# Altium integrated library TI_Logic_Little_Logic.IntLib: 1164 symbols (part 7 of 35)
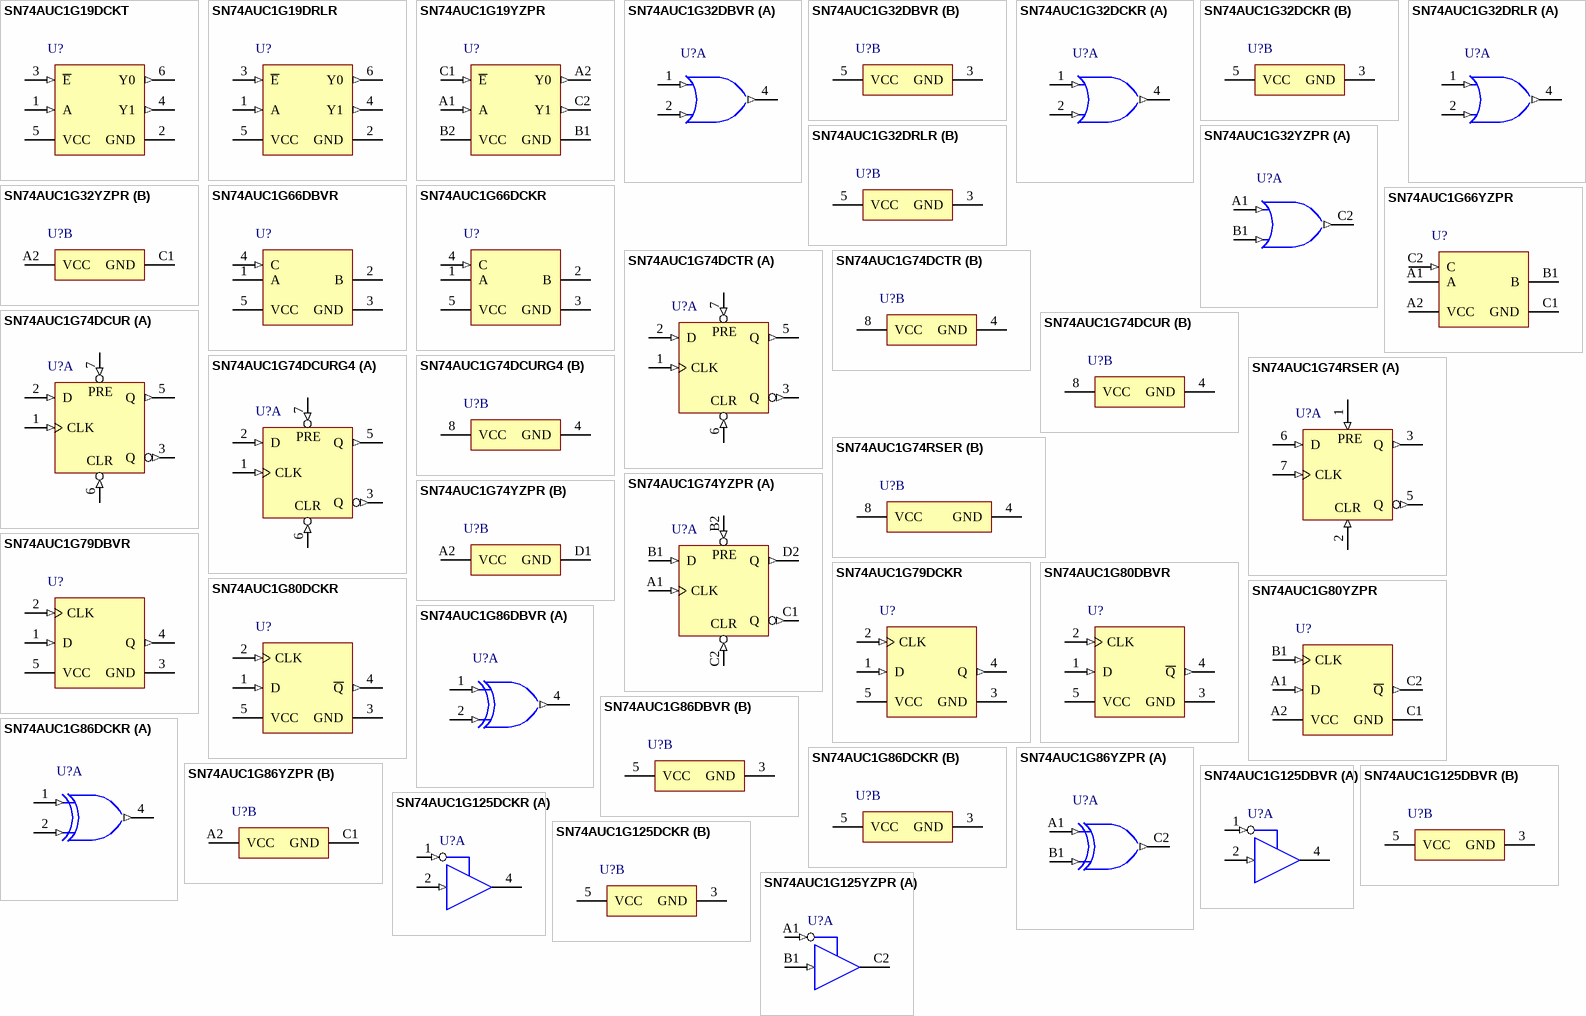
[diagram p66: symbols SN74AUC1G19DCKT to SN74AUC1G125YZPR]

## SN74AUC1G79DBVR
designator U?
Single Positive-Edge-Triggered D-Type Flip-Flop, DBV0005A, LARGE T&R; Generic Part Number: SN74AUC1G79; Manufacturer: Texas Instruments; PartNumber: SN74AUC1G79DBVR; VCC(Min)(V): 0.8; VCC(Max)(V): 2.7; Output Type: CMOS; ICC @ Nom Voltage(Max)(mA): 0.01; Bits(#): 1; F @ Nom Voltage(Max)(Mhz): 250; Rating: Catalog; Technology Family: AUC; Voltage(Nom)(V): 0.8,1.2,1.5,1.8,2.5; Schmitt Trigger: No; Output Drive (IOL/IOH)(Max)(mA): 9/-9; tpd @ Nom Voltage(Max)(ns): 5,2.9,2.5,1.9,1.3; Logic: True; DatasheetVersion: SCES387K; PackageReference: DBV0005A; Supplier 1: Mouser; Supplier Part Number 1: 595-SN74AUC1G79DBVR; Supplier 2: Digi-Key; Supplier Part Number 2: 296-15430-2-ND; Supplier 3: Digi-Key; Supplier Part Number 3: 296-15430-1-ND; Supplier 4: Digi-Key; Supplier Part Number 4: 296-15430-6-ND; Input Type: CMOS; Operating Temperature Range(C): -40 to 85; 3-State Output: No; Sub-Family: D-Type Flip-Flop; ComponentLink1Description: Manufacturer URL; ComponentLink1URL: http://www.ti.com/; ComponentLink2Description: Datasheet; ComponentLink2URL: http://www.ti.com/lit/ds/symlink/sn74auc1g79.pdf
footprint DBV0005A_N (SOT23, 5-Leads, Body 3.05x1.75mm, Pitch 0.95mm, IPC Medium Density)
footprint DBV0005A_M (SOT23, 5-Leads, Body 3.05x1.75mm, Pitch 0.95mm, IPC Low Density)
footprint DBV0005A_L (SOT23, 5-Leads, Body 3.05x1.75mm, Pitch 0.95mm, IPC High Density)
pins: 1 D (in) "Data Input", 2 CLK (in) "Clock Input", 3 GND (power) "Ground", 4 Q (out) "Q Output", 5 VCC (power) "Power"

## SN74AUC1G79DCKR
designator U?
Single Positive-Edge-Triggered D-Type Flip-Flop, DCK0005A, LARGE T&R; Generic Part Number: SN74AUC1G79; Manufacturer: Texas Instruments; PartNumber: SN74AUC1G79DCKR; VCC(Min)(V): 0.8; VCC(Max)(V): 2.7; Output Type: CMOS; ICC @ Nom Voltage(Max)(mA): 0.01; Bits(#): 1; F @ Nom Voltage(Max)(Mhz): 250; Rating: Catalog; Technology Family: AUC; Voltage(Nom)(V): 0.8,1.2,1.5,1.8,2.5; Schmitt Trigger: No; Output Drive (IOL/IOH)(Max)(mA): 9/-9; tpd @ Nom Voltage(Max)(ns): 5,2.9,2.5,1.9,1.3; Logic: True; DatasheetVersion: SCES387K; PackageReference: DCK0005A; Supplier 1: Mouser; Supplier Part Number 1: 595-SN74AUC1G79DCKR; Supplier 2: Digi-Key; Supplier Part Number 2: 296-14309-2-ND; Supplier 3: Digi-Key; Supplier Part Number 3: 296-14309-1-ND; Supplier 4: Digi-Key; Supplier Part Number 4: 296-14309-6-ND; Input Type: CMOS; Operating Temperature Range(C): -40 to 85; 3-State Output: No; Sub-Family: D-Type Flip-Flop; ComponentLink1Description: Manufacturer URL; ComponentLink1URL: http://www.ti.com/; ComponentLink2Description: Datasheet; ComponentLink2URL: http://www.ti.com/lit/ds/symlink/sn74auc1g79.pdf
footprint DCK0005A_N (SOT23, 5-Leads, Body 2.15x1.4mm, Pitch 0.65mm, IPC Medium Density)
footprint DCK0005A_M (SOT23, 5-Leads, Body 2.15x1.4mm, Pitch 0.65mm, IPC Low Density)
footprint DCK0005A_L (SOT23, 5-Leads, Body 2.15x1.4mm, Pitch 0.65mm, IPC High Density)
pins: 1 D (in) "Data Input", 2 CLK (in) "Clock Input", 3 GND (power) "Ground", 4 Q (out) "Q Output", 5 VCC (power) "Power"

## SN74AUC1G80DBVR
designator U?
Single Positive-Edge-Triggered D-Type Flip-Flop, DBV0005A, LARGE T&R; Generic Part Number: SN74AUC1G80; Manufacturer: Texas Instruments; PartNumber: SN74AUC1G80DBVR; VCC(Min)(V): 0.8; VCC(Max)(V): 2.7; Output Type: CMOS; ICC @ Nom Voltage(Max)(mA): 0.01; Bits(#): 1; F @ Nom Voltage(Max)(Mhz): 250; Rating: Catalog; Technology Family: AUC; Voltage(Nom)(V): 0.8,1.2,1.5,1.8,2.5; Schmitt Trigger: No; Output Drive (IOL/IOH)(Max)(mA): 9/-9; tpd @ Nom Voltage(Max)(ns): 5,3.9,2.5,1.9,1.3; Logic: True; DatasheetVersion: SCES388K; PackageReference: DBV0005A; Supplier 1: Mouser; Supplier Part Number 1: 595-SN74AUC1G80DBVR; Supplier 2: Digi-Key; Supplier Part Number 2: 296-15431-2-ND; Supplier 3: Digi-Key; Supplier Part Number 3: 296-15431-1-ND; Supplier 4: Digi-Key; Supplier Part Number 4: 296-15431-6-ND; Input Type: CMOS; Operating Temperature Range(C): -40 to 85; 3-State Output: No; Sub-Family: D-Type Flip-Flop; ComponentLink1Description: Manufacturer URL; ComponentLink1URL: http://www.ti.com/; ComponentLink2Description: Datasheet; ComponentLink2URL: http://www.ti.com/lit/ds/symlink/sn74auc1g80.pdf
footprint DBV0005A_N (SOT23, 5-Leads, Body 3.05x1.75mm, Pitch 0.95mm, IPC Medium Density)
footprint DBV0005A_M (SOT23, 5-Leads, Body 3.05x1.75mm, Pitch 0.95mm, IPC Low Density)
footprint DBV0005A_L (SOT23, 5-Leads, Body 3.05x1.75mm, Pitch 0.95mm, IPC High Density)
pins: 1 D (in), 2 CLK (in), 3 GND (power), 4 ~{Q} (out), 5 VCC (power)

## SN74AUC1G80DCKR
designator U?
Single Positive-Edge-Triggered D-Type Flip-Flop, DCK0005A, LARGE T&R; Generic Part Number: SN74AUC1G80; Manufacturer: Texas Instruments; PartNumber: SN74AUC1G80DCKR; VCC(Min)(V): 0.8; VCC(Max)(V): 2.7; Output Type: CMOS; ICC @ Nom Voltage(Max)(mA): 0.01; Bits(#): 1; F @ Nom Voltage(Max)(Mhz): 250; Rating: Catalog; Technology Family: AUC; Voltage(Nom)(V): 0.8,1.2,1.5,1.8,2.5; Schmitt Trigger: No; Output Drive (IOL/IOH)(Max)(mA): 9/-9; tpd @ Nom Voltage(Max)(ns): 5,3.9,2.5,1.9,1.3; Logic: True; DatasheetVersion: SCES388K; PackageReference: DCK0005A; Supplier 1: Mouser; Supplier Part Number 1: 595-SN74AUC1G80DCKR; Supplier 2: Digi-Key; Supplier Part Number 2: 296-14310-2-ND; Supplier 3: Digi-Key; Supplier Part Number 3: 296-14310-1-ND; Supplier 4: Digi-Key; Supplier Part Number 4: 296-14310-6-ND; Input Type: CMOS; Operating Temperature Range(C): -40 to 85; 3-State Output: No; Sub-Family: D-Type Flip-Flop; ComponentLink1Description: Manufacturer URL; ComponentLink1URL: http://www.ti.com/; ComponentLink2Description: Datasheet; ComponentLink2URL: http://www.ti.com/lit/ds/symlink/sn74auc1g80.pdf
footprint DCK0005A_N (SOT23, 5-Leads, Body 2.15x1.4mm, Pitch 0.65mm, IPC Medium Density)
footprint DCK0005A_M (SOT23, 5-Leads, Body 2.15x1.4mm, Pitch 0.65mm, IPC Low Density)
footprint DCK0005A_L (SOT23, 5-Leads, Body 2.15x1.4mm, Pitch 0.65mm, IPC High Density)
pins: 1 D (in), 2 CLK (in), 3 GND (power), 4 ~{Q} (out), 5 VCC (power)

## SN74AUC1G80YZPR
designator U?
Single Positive-Edge-Triggered D-Type Flip-Flop, YZP0005ADAD, LARGE T&R; Generic Part Number: SN74AUC1G80; Manufacturer: Texas Instruments; PartNumber: SN74AUC1G80YZPR; VCC(Min)(V): 0.8; VCC(Max)(V): 2.7; Output Type: CMOS; ICC @ Nom Voltage(Max)(mA): 0.01; Bits(#): 1; F @ Nom Voltage(Max)(Mhz): 250; Rating: Catalog; Technology Family: AUC; Voltage(Nom)(V): 0.8,1.2,1.5,1.8,2.5; Schmitt Trigger: No; Output Drive (IOL/IOH)(Max)(mA): 9/-9; tpd @ Nom Voltage(Max)(ns): 5,3.9,2.5,1.9,1.3; Logic: True; DatasheetVersion: SCES388K; PackageReference: YZP0005ADAD; Supplier 1: Mouser; Supplier Part Number 1: 595-SN74AUC1G80YZPR; Supplier 2: Digi-Key; Supplier Part Number 2: 296-15890-2-ND; Supplier 3: Digi-Key; Supplier Part Number 3: 296-15890-1-ND; Input Type: CMOS; Operating Temperature Range(C): -40 to 85; 3-State Output: No; Sub-Family: D-Type Flip-Flop; ComponentLink1Description: Manufacturer URL; ComponentLink1URL: http://www.ti.com/; ComponentLink2Description: Datasheet; ComponentLink2URL: http://www.ti.com/lit/ds/symlink/sn74auc1g80.pdf
footprint YZP0005ADAD (BGA, 5-Balls, Body 1.39x0.89mm, Pitch 0.5mm)
pins: A1 D (in), A2 VCC (power), B1 CLK (in), C1 GND (power), C2 ~{Q} (out)

## SN74AUC1G86DBVR
designator U?
Single 2-Input Exclusive-OR Gate, DBV0005A, LARGE T&R; Generic Part Number: SN74AUC1G86; Manufacturer: Texas Instruments; PartNumber: SN74AUC1G86DBVR; VCC(Min)(V): 0.8; VCC(Max)(V): 2.7; Output Type: CMOS; ICC @ Nom Voltage(Max)(mA): 0.01; Bits(#): 1; F @ Nom Voltage(Max)(Mhz): 250; Rating: Catalog; Technology Family: AUC; Voltage(Nom)(V): 0.8,1.2,1.5,1.8,2.5; Schmitt Trigger: No; Output Drive (IOL/IOH)(Max)(mA): 9/-9; tpd @ Nom Voltage(Max)(ns): 5.5,3.8,2.6,1.7,1.3; Logic: True; Gate Type: XOR; Sub-Family: XOR Gate; DatasheetVersion: SCES389J; PackageReference: DBV0005A; Supplier 1: Mouser; Supplier Part Number 1: 595-SN74AUC1G86DBVR; Supplier 2: Digi-Key; Supplier Part Number 2: 296-15432-2-ND; Supplier 3: Digi-Key; Supplier Part Number 3: 296-15432-1-ND; Supplier 4: Digi-Key; Supplier Part Number 4: 296-15432-6-ND; Input Type: CMOS; Operating Temperature Range(C): -40 to 85; 3-State Output: No; ComponentLink1Description: Manufacturer URL; ComponentLink1URL: http://www.ti.com/; ComponentLink2Description: Datasheet; ComponentLink2URL: http://www.ti.com/lit/ds/symlink/sn74auc1g86.pdf
footprint DBV0005A_N (SOT23, 5-Leads, Body 3.05x1.75mm, Pitch 0.95mm, IPC Medium Density)
footprint DBV0005A_M (SOT23, 5-Leads, Body 3.05x1.75mm, Pitch 0.95mm, IPC Low Density)
footprint DBV0005A_L (SOT23, 5-Leads, Body 3.05x1.75mm, Pitch 0.95mm, IPC High Density)
part A pins: 1 A (in) "Input A", 2 B (in) "Input B", 4 Y (out) "Output Y"
part B pins: 3 GND (power) "Ground Pin", 5 VCC (power) "Power Pin"

## SN74AUC1G86DCKR
designator U?
Single 2-Input Exclusive-OR Gate, DCK0005A, LARGE T&R; Generic Part Number: SN74AUC1G86; Manufacturer: Texas Instruments; PartNumber: SN74AUC1G86DCKR; VCC(Min)(V): 0.8; VCC(Max)(V): 2.7; Output Type: CMOS; ICC @ Nom Voltage(Max)(mA): 0.01; Bits(#): 1; F @ Nom Voltage(Max)(Mhz): 250; Rating: Catalog; Technology Family: AUC; Voltage(Nom)(V): 0.8,1.2,1.5,1.8,2.5; Schmitt Trigger: No; Output Drive (IOL/IOH)(Max)(mA): 9/-9; tpd @ Nom Voltage(Max)(ns): 5.5,3.8,2.6,1.7,1.3; Logic: True; Gate Type: XOR; Sub-Family: XOR Gate; DatasheetVersion: SCES389J; PackageReference: DCK0005A; Supplier 1: Mouser; Supplier Part Number 1: 595-SN74AUC1G86DCKR; Supplier 2: Digi-Key; Supplier Part Number 2: 296-15433-2-ND; Supplier 3: Digi-Key; Supplier Part Number 3: 296-15433-1-ND; Supplier 4: Digi-Key; Supplier Part Number 4: 296-15433-6-ND; Input Type: CMOS; Operating Temperature Range(C): -40 to 85; 3-State Output: No; ComponentLink1Description: Manufacturer URL; ComponentLink1URL: http://www.ti.com/; ComponentLink2Description: Datasheet; ComponentLink2URL: http://www.ti.com/lit/ds/symlink/sn74auc1g86.pdf
footprint DCK0005A_N (SOT23, 5-Leads, Body 2.15x1.4mm, Pitch 0.65mm, IPC Medium Density)
footprint DCK0005A_M (SOT23, 5-Leads, Body 2.15x1.4mm, Pitch 0.65mm, IPC Low Density)
footprint DCK0005A_L (SOT23, 5-Leads, Body 2.15x1.4mm, Pitch 0.65mm, IPC High Density)
part A pins: 1 A (in) "Input A", 2 B (in) "Input B", 4 Y (out) "Output Y"
part B pins: 3 GND (power) "Ground Pin", 5 VCC (power) "Power Pin"

## SN74AUC1G86YZPR
designator U?
Single 2-Input Exclusive-OR Gate, YZP0005ADAD, LARGE T&R; Generic Part Number: SN74AUC1G86; Manufacturer: Texas Instruments; PartNumber: SN74AUC1G86YZPR; VCC(Min)(V): 0.8; VCC(Max)(V): 2.7; Output Type: CMOS; ICC @ Nom Voltage(Max)(mA): 0.01; Bits(#): 1; F @ Nom Voltage(Max)(Mhz): 250; Rating: Catalog; Technology Family: AUC; Voltage(Nom)(V): 0.8,1.2,1.5,1.8,2.5; Schmitt Trigger: No; Output Drive (IOL/IOH)(Max)(mA): 9/-9; tpd @ Nom Voltage(Max)(ns): 5.5,3.8,2.6,1.7,1.3; Logic: True; Gate Type: XOR; Sub-Family: XOR Gate; DatasheetVersion: SCES389J; PackageReference: YZP0005ADAD; Supplier 1: Mouser; Supplier Part Number 1: 595-SN74AUC1G86YZPR; Supplier 2: Digi-Key; Supplier Part Number 2: 296-18564-2-ND; Supplier 3: Digi-Key; Supplier Part Number 3: 296-18564-1-ND; Input Type: CMOS; Operating Temperature Range(C): -40 to 85; 3-State Output: No; ComponentLink1Description: Manufacturer URL; ComponentLink1URL: http://www.ti.com/; ComponentLink2Description: Datasheet; ComponentLink2URL: http://www.ti.com/lit/ds/symlink/sn74auc1g86.pdf
footprint YZP0005ADAD (BGA, 5-Balls, Body 1.39x0.89mm, Pitch 0.5mm)
part A pins: A1 A (in), B1 B (in), C2 Y (out)
part B pins: A2 VCC (power), C1 GND (power)

## SN74AUC1G125DBVR
designator U?
Single Bus Buffer Gate With 3-State Output, DBV0005A, LARGE T&R; Generic Part Number: SN74AUC1G125; Manufacturer: Texas Instruments; PartNumber: SN74AUC1G125DBVR; VCC(Min)(V): 0.8; VCC(Max)(V): 2.7; Output Type: CMOS; ICC @ Nom Voltage(Max)(mA): 0.01; Bits(#): 1; F @ Nom Voltage(Max)(Mhz): 250; Rating: Catalog; Technology Family: AUC; Voltage(Nom)(V): 0.8,1.2,1.5,1.8,2.5; Schmitt Trigger: No; Output Drive (IOL/IOH)(Max)(mA): 9/-9; tpd @ Nom Voltage(Max)(ns): 4.7,3.6,2.3,1.5,1.3; Logic: True; Sub-Family: Non-Inverting Buffer/Driver; 3-State Output: Yes; DatasheetVersion: SCES382K; PackageReference: DBV0005A; Supplier 1: Mouser; Supplier Part Number 1: 595-SN74AUC1G125DBVR; Supplier 2: Digi-Key; Supplier Part Number 2: 296-12657-2-ND; Supplier 3: Digi-Key; Supplier Part Number 3: 296-12657-1-ND; Supplier 4: Digi-Key; Supplier Part Number 4: 296-12657-6-ND; Input Type: CMOS; Operating Temperature Range(C): -40 to 85; ComponentLink1Description: Manufacturer URL; ComponentLink1URL: http://www.ti.com/; ComponentLink2Description: Datasheet; ComponentLink2URL: http://www.ti.com/lit/ds/symlink/sn74auc1g125.pdf
footprint DBV0005A_N (SOT23, 5-Leads, Body 3.05x1.75mm, Pitch 0.95mm, IPC Medium Density)
footprint DBV0005A_M (SOT23, 5-Leads, Body 3.05x1.75mm, Pitch 0.95mm, IPC Low Density)
footprint DBV0005A_L (SOT23, 5-Leads, Body 3.05x1.75mm, Pitch 0.95mm, IPC High Density)
part A pins: 1 ~{OE} (in), 2 A (in), 4 Y (hiz)
part B pins: 3 GND (power), 5 VCC (power)

## SN74AUC1G125DCKR
designator U?
Single Bus Buffer Gate With 3-State Output, DCK0005A, LARGE T&R; Generic Part Number: SN74AUC1G125; Manufacturer: Texas Instruments; PartNumber: SN74AUC1G125DCKR; VCC(Min)(V): 0.8; VCC(Max)(V): 2.7; Output Type: CMOS; ICC @ Nom Voltage(Max)(mA): 0.01; Bits(#): 1; F @ Nom Voltage(Max)(Mhz): 250; Rating: Catalog; Technology Family: AUC; Voltage(Nom)(V): 0.8,1.2,1.5,1.8,2.5; Schmitt Trigger: No; Output Drive (IOL/IOH)(Max)(mA): 9/-9; tpd @ Nom Voltage(Max)(ns): 4.7,3.6,2.3,1.5,1.3; Logic: True; Sub-Family: Non-Inverting Buffer/Driver; 3-State Output: Yes; DatasheetVersion: SCES382K; PackageReference: DCK0005A; Supplier 1: Mouser; Supplier Part Number 1: 595-SN74AUC1G125DCKR; Supplier 2: Digi-Key; Supplier Part Number 2: 296-12658-2-ND; Supplier 3: Digi-Key; Supplier Part Number 3: 296-12658-1-ND; Supplier 4: Digi-Key; Supplier Part Number 4: 296-12658-6-ND; Input Type: CMOS; Operating Temperature Range(C): -40 to 85; ComponentLink1Description: Manufacturer URL; ComponentLink1URL: http://www.ti.com/; ComponentLink2Description: Datasheet; ComponentLink2URL: http://www.ti.com/lit/ds/symlink/sn74auc1g125.pdf
footprint DCK0005A_N (SOT23, 5-Leads, Body 2.15x1.4mm, Pitch 0.65mm, IPC Medium Density)
footprint DCK0005A_M (SOT23, 5-Leads, Body 2.15x1.4mm, Pitch 0.65mm, IPC Low Density)
footprint DCK0005A_L (SOT23, 5-Leads, Body 2.15x1.4mm, Pitch 0.65mm, IPC High Density)
part A pins: 1 ~{OE} (in), 2 A (in), 4 Y (hiz)
part B pins: 3 GND (power), 5 VCC (power)

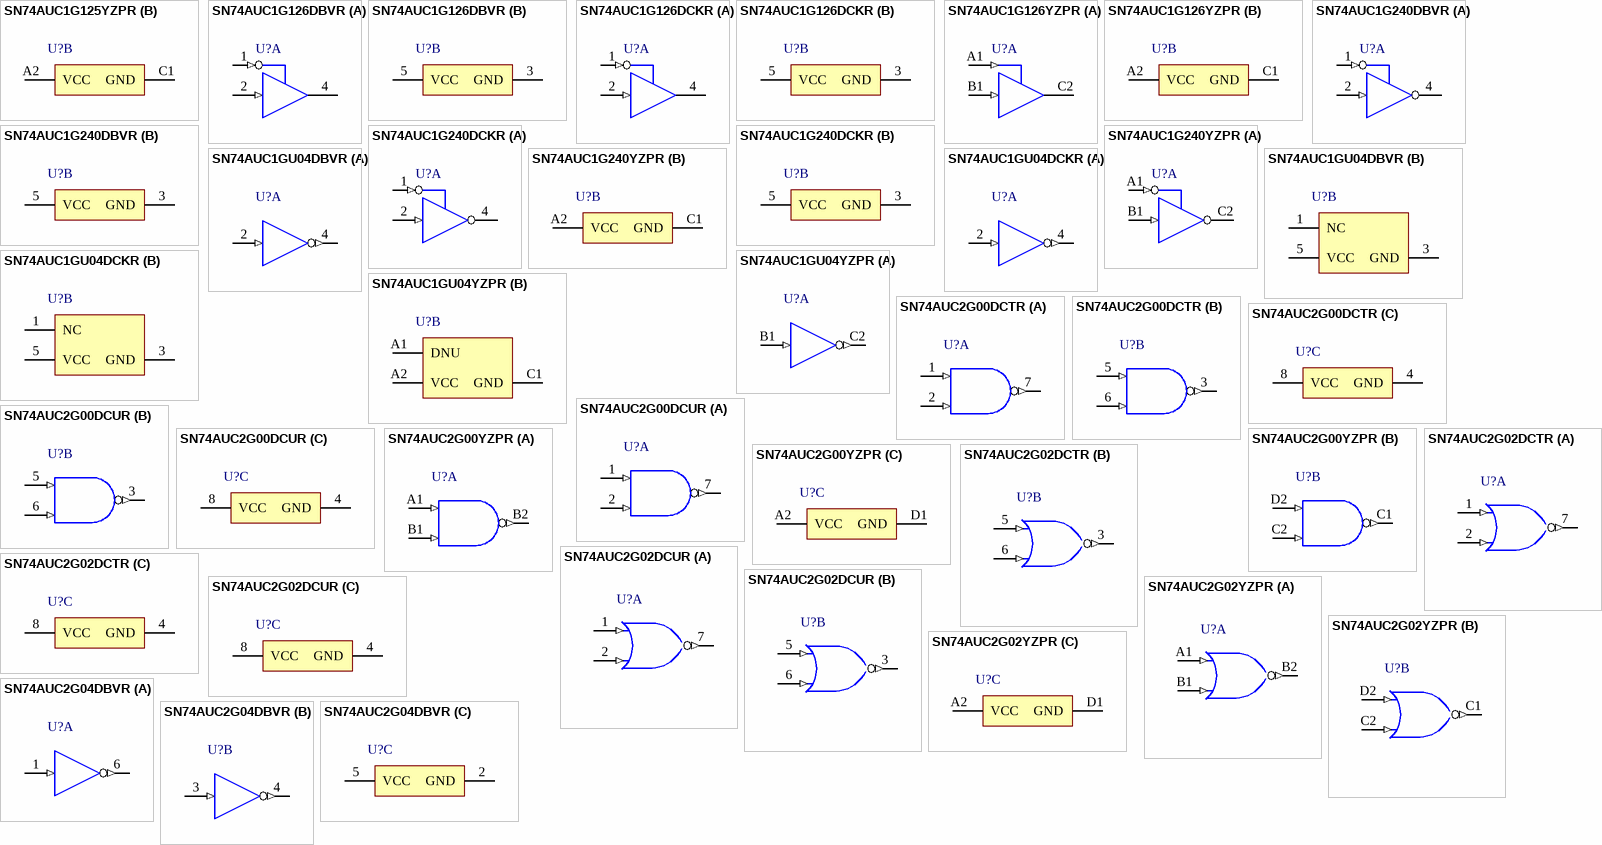
[diagram p10: symbols SN74AUC1G125YZPR to SN74AUC2G04DBVR]

## SN74AUC1G125YZPR
designator U?
Single Bus Buffer Gate With 3-State Output, YZP0005ADAD, LARGE T&R; Generic Part Number: SN74AUC1G125; Manufacturer: Texas Instruments; PartNumber: SN74AUC1G125YZPR; VCC(Min)(V): 0.8; VCC(Max)(V): 2.7; Output Type: CMOS; ICC @ Nom Voltage(Max)(mA): 0.01; Bits(#): 1; F @ Nom Voltage(Max)(Mhz): 250; Rating: Catalog; Technology Family: AUC; Voltage(Nom)(V): 0.8,1.2,1.5,1.8,2.5; Schmitt Trigger: No; Output Drive (IOL/IOH)(Max)(mA): 9/-9; tpd @ Nom Voltage(Max)(ns): 4.7,3.6,2.3,1.5,1.3; Logic: True; Sub-Family: Non-Inverting Buffer/Driver; 3-State Output: Yes; DatasheetVersion: SCES382K; PackageReference: YZP0005ADAD; Supplier 1: Mouser; Supplier Part Number 1: 595-SN74AUC1G125YZPR; Supplier 2: Digi-Key; Supplier Part Number 2: 296-18551-2-ND; Supplier 3: Digi-Key; Supplier Part Number 3: 296-18551-1-ND; Supplier 4: Digi-Key; Supplier Part Number 4: 296-18551-6-ND; Input Type: CMOS; Operating Temperature Range(C): -40 to 85; ComponentLink1Description: Manufacturer URL; ComponentLink1URL: http://www.ti.com/; ComponentLink2Description: Datasheet; ComponentLink2URL: http://www.ti.com/lit/ds/symlink/sn74auc1g125.pdf
footprint YZP0005ADAD (BGA, 5-Balls, Body 1.39x0.89mm, Pitch 0.5mm)
part A pins: A1 ~{OE} (in), B1 A (in), C2 Y (hiz)
part B pins: A2 VCC (power), C1 GND (power)

## SN74AUC1G126DBVR
designator U?
Single Bus Buffer Gate With 3-State Output, DBV0005A, LARGE T&R; Generic Part Number: SN74AUC1G126; Manufacturer: Texas Instruments; PartNumber: SN74AUC1G126DBVR; VCC(Min)(V): 0.8; VCC(Max)(V): 2.7; Output Type: CMOS; ICC @ Nom Voltage(Max)(mA): 0.01; Bits(#): 1; F @ Nom Voltage(Max)(Mhz): 250; Rating: Catalog; Technology Family: AUC; Voltage(Nom)(V): 0.8,1.2,1.5,1.8,2.5; Schmitt Trigger: No; Output Drive (IOL/IOH)(Max)(mA): 9/-9; tpd @ Nom Voltage(Max)(ns): 4.5,3.6,2.3,1.6,1.4; Logic: True; Sub-Family: Non-Inverting Buffer/Driver; 3-State Output: Yes; DatasheetVersion: SCES383J; PackageReference: DBV0005A; Supplier 1: Mouser; Supplier Part Number 1: 595-SN74AUC1G126DBVR; Supplier 2: Digi-Key; Supplier Part Number 2: 296-12659-2-ND; Supplier 3: Digi-Key; Supplier Part Number 3: 296-12659-1-ND; Supplier 4: Digi-Key; Supplier Part Number 4: 296-12659-6-ND; Input Type: CMOS; Operating Temperature Range(C): -40 to 85; ComponentLink1Description: Manufacturer URL; ComponentLink1URL: http://www.ti.com/; ComponentLink2Description: Datasheet; ComponentLink2URL: http://www.ti.com/lit/ds/symlink/sn74auc1g126.pdf
footprint DBV0005A_N (SOT23, 5-Leads, Body 3.05x1.75mm, Pitch 0.95mm, IPC Medium Density)
footprint DBV0005A_M (SOT23, 5-Leads, Body 3.05x1.75mm, Pitch 0.95mm, IPC Low Density)
footprint DBV0005A_L (SOT23, 5-Leads, Body 3.05x1.75mm, Pitch 0.95mm, IPC High Density)
part A pins: 1 OE (in), 2 A (in), 4 Y (hiz)
part B pins: 3 GND (power), 5 VCC (power)

## SN74AUC1G126DCKR
designator U?
Single Bus Buffer Gate With 3-State Output, DCK0005A, LARGE T&R; Generic Part Number: SN74AUC1G126; Manufacturer: Texas Instruments; PartNumber: SN74AUC1G126DCKR; VCC(Min)(V): 0.8; VCC(Max)(V): 2.7; Output Type: CMOS; ICC @ Nom Voltage(Max)(mA): 0.01; Bits(#): 1; F @ Nom Voltage(Max)(Mhz): 250; Rating: Catalog; Technology Family: AUC; Voltage(Nom)(V): 0.8,1.2,1.5,1.8,2.5; Schmitt Trigger: No; Output Drive (IOL/IOH)(Max)(mA): 9/-9; tpd @ Nom Voltage(Max)(ns): 4.5,3.6,2.3,1.6,1.4; Logic: True; Sub-Family: Non-Inverting Buffer/Driver; 3-State Output: Yes; DatasheetVersion: SCES383J; PackageReference: DCK0005A; Supplier 1: Mouser; Supplier Part Number 1: 595-SN74AUC1G126DCKR; Supplier 2: Digi-Key; Supplier Part Number 2: 296-12660-2-ND; Supplier 3: Digi-Key; Supplier Part Number 3: 296-12660-1-ND; Supplier 4: Digi-Key; Supplier Part Number 4: 296-12660-6-ND; Input Type: CMOS; Operating Temperature Range(C): -40 to 85; ComponentLink1Description: Manufacturer URL; ComponentLink1URL: http://www.ti.com/; ComponentLink2Description: Datasheet; ComponentLink2URL: http://www.ti.com/lit/ds/symlink/sn74auc1g126.pdf
footprint DCK0005A_N (SOT23, 5-Leads, Body 2.15x1.4mm, Pitch 0.65mm, IPC Medium Density)
footprint DCK0005A_M (SOT23, 5-Leads, Body 2.15x1.4mm, Pitch 0.65mm, IPC Low Density)
footprint DCK0005A_L (SOT23, 5-Leads, Body 2.15x1.4mm, Pitch 0.65mm, IPC High Density)
part A pins: 1 OE (in), 2 A (in), 4 Y (hiz)
part B pins: 3 GND (power), 5 VCC (power)

## SN74AUC1G126YZPR
designator U?
Single Bus Buffer Gate With 3-State Output, YZP0005ADAD, LARGE T&R; Generic Part Number: SN74AUC1G126; Manufacturer: Texas Instruments; PartNumber: SN74AUC1G126YZPR; VCC(Min)(V): 0.8; VCC(Max)(V): 2.7; Output Type: CMOS; ICC @ Nom Voltage(Max)(mA): 0.01; Bits(#): 1; F @ Nom Voltage(Max)(Mhz): 250; Rating: Catalog; Technology Family: AUC; Voltage(Nom)(V): 0.8,1.2,1.5,1.8,2.5; Schmitt Trigger: No; Output Drive (IOL/IOH)(Max)(mA): 9/-9; tpd @ Nom Voltage(Max)(ns): 4.5,3.6,2.3,1.6,1.4; Logic: True; Sub-Family: Non-Inverting Buffer/Driver; 3-State Output: Yes; DatasheetVersion: SCES383J; PackageReference: YZP0005ADAD; Supplier 1: Mouser; Supplier Part Number 1: 595-SN74AUC1G126YZPR; Supplier 2: Digi-Key; Supplier Part Number 2: 296-19781-2-ND; Supplier 3: Digi-Key; Supplier Part Number 3: 296-19781-1-ND; Supplier 4: Digi-Key; Supplier Part Number 4: 296-19781-6-ND; Input Type: CMOS; Operating Temperature Range(C): -40 to 85; ComponentLink1Description: Manufacturer URL; ComponentLink1URL: http://www.ti.com/; ComponentLink2Description: Datasheet; ComponentLink2URL: http://www.ti.com/lit/ds/symlink/sn74auc1g126.pdf
footprint YZP0005ADAD (BGA, 5-Balls, Body 1.39x0.89mm, Pitch 0.5mm)
part A pins: A1 OE (in) "OE Enable/Input", B1 A (in) "A Input", C2 Y (hiz) "Y Output"
part B pins: A2 VCC (power) "Power Pin", C1 GND (power) "Ground Pin"

## SN74AUC1G240DBVR
designator U?
Single Buffer/Driver With 3-State Output, DBV0005A, LARGE T&R; Generic Part Number: SN74AUC1G240; Manufacturer: Texas Instruments; PartNumber: SN74AUC1G240DBVR; VCC(Min)(V): 0.8; VCC(Max)(V): 2.7; Output Type: CMOS; ICC @ Nom Voltage(Max)(mA): 0.01; Bits(#): 1; F @ Nom Voltage(Max)(Mhz): 250; Rating: Catalog; Technology Family: AUC; Voltage(Nom)(V): 0.8,1.2,1.5,1.8,2.5; Schmitt Trigger: No; Output Drive (IOL/IOH)(Max)(mA): 9/-9; tpd @ Nom Voltage(Max)(ns): 4.5,3.3,2.2,1.7,1.4; Logic: Inverting; Sub-Family: Non-Inverting Buffer/Driver; 3-State Output: Yes; DatasheetVersion: SCES384I; PackageReference: DBV0005A; Supplier 1: Mouser; Supplier Part Number 1: 595-SN74AUC1G240DBVR; Supplier 2: Digi-Key; Supplier Part Number 2: 296-12661-2-ND; Supplier 3: Digi-Key; Supplier Part Number 3: 296-12661-1-ND; Supplier 4: Digi-Key; Supplier Part Number 4: 296-12661-6-ND; Input Type: CMOS; Operating Temperature Range(C): -40 to 85; ComponentLink1Description: Manufacturer URL; ComponentLink1URL: http://www.ti.com/; ComponentLink2Description: Datasheet; ComponentLink2URL: http://www.ti.com/lit/ds/symlink/sn74auc1g240.pdf
footprint DBV0005A_N (SOT23, 5-Leads, Body 3.05x1.75mm, Pitch 0.95mm, IPC Medium Density)
footprint DBV0005A_M (SOT23, 5-Leads, Body 3.05x1.75mm, Pitch 0.95mm, IPC Low Density)
footprint DBV0005A_L (SOT23, 5-Leads, Body 3.05x1.75mm, Pitch 0.95mm, IPC High Density)
part A pins: 1 ~{OE} (in), 2 A (in), 4 Y (hiz)
part B pins: 3 GND (power), 5 VCC (power)

## SN74AUC1G240DCKR
designator U?
Single Buffer/Driver With 3-State Output, DCK0005A, LARGE T&R; Generic Part Number: SN74AUC1G240; Manufacturer: Texas Instruments; PartNumber: SN74AUC1G240DCKR; VCC(Min)(V): 0.8; VCC(Max)(V): 2.7; Output Type: CMOS; ICC @ Nom Voltage(Max)(mA): 0.01; Bits(#): 1; F @ Nom Voltage(Max)(Mhz): 250; Rating: Catalog; Technology Family: AUC; Voltage(Nom)(V): 0.8,1.2,1.5,1.8,2.5; Schmitt Trigger: No; Output Drive (IOL/IOH)(Max)(mA): 9/-9; tpd @ Nom Voltage(Max)(ns): 4.5,3.3,2.2,1.7,1.4; Logic: Inverting; Sub-Family: Non-Inverting Buffer/Driver; 3-State Output: Yes; DatasheetVersion: SCES384I; PackageReference: DCK0005A; Supplier 1: Mouser; Supplier Part Number 1: 595-SN74AUC1G240DCKR; Supplier 2: Digi-Key; Supplier Part Number 2: 296-12662-2-ND; Supplier 3: Digi-Key; Supplier Part Number 3: 296-12662-1-ND; Supplier 4: Digi-Key; Supplier Part Number 4: 296-12662-6-ND; Input Type: CMOS; Operating Temperature Range(C): -40 to 85; ComponentLink1Description: Manufacturer URL; ComponentLink1URL: http://www.ti.com/; ComponentLink2Description: Datasheet; ComponentLink2URL: http://www.ti.com/lit/ds/symlink/sn74auc1g240.pdf
footprint DCK0005A_N (SOT23, 5-Leads, Body 2.15x1.4mm, Pitch 0.65mm, IPC Medium Density)
footprint DCK0005A_M (SOT23, 5-Leads, Body 2.15x1.4mm, Pitch 0.65mm, IPC Low Density)
footprint DCK0005A_L (SOT23, 5-Leads, Body 2.15x1.4mm, Pitch 0.65mm, IPC High Density)
part A pins: 1 ~{OE} (in), 2 A (in), 4 Y (hiz)
part B pins: 3 GND (power), 5 VCC (power)

## SN74AUC1G240YZPR
designator U?
Single Buffer/Driver With 3-State Output, YZP0005ADAD, LARGE T&R; Generic Part Number: SN74AUC1G240; Manufacturer: Texas Instruments; PartNumber: SN74AUC1G240YZPR; VCC(Min)(V): 0.8; VCC(Max)(V): 2.7; Output Type: CMOS; ICC @ Nom Voltage(Max)(mA): 0.01; Bits(#): 1; F @ Nom Voltage(Max)(Mhz): 250; Rating: Catalog; Technology Family: AUC; Voltage(Nom)(V): 0.8,1.2,1.5,1.8,2.5; Schmitt Trigger: No; Output Drive (IOL/IOH)(Max)(mA): 9/-9; tpd @ Nom Voltage(Max)(ns): 4.5,3.3,2.2,1.7,1.4; Logic: Inverting; Sub-Family: Non-Inverting Buffer/Driver; 3-State Output: Yes; DatasheetVersion: SCES384I; PackageReference: YZP0005ADAD; Supplier 1: Mouser; Supplier Part Number 1: 595-SN74AUC1G240YZPR; Supplier 2: Digi-Key; Supplier Part Number 2: 296-15101-2-ND; Supplier 3: Digi-Key; Supplier Part Number 3: 296-15101-1-ND; Input Type: CMOS; Operating Temperature Range(C): -40 to 85; ComponentLink1Description: Manufacturer URL; ComponentLink1URL: http://www.ti.com/; ComponentLink2Description: Datasheet; ComponentLink2URL: http://www.ti.com/lit/ds/symlink/sn74auc1g240.pdf
footprint YZP0005ADAD (BGA, 5-Balls, Body 1.39x0.89mm, Pitch 0.5mm)
part A pins: A1 ~{OE} (in), B1 A (in), C2 Y (hiz)
part B pins: A2 VCC (power), C1 GND (power)

## SN74AUC1GU04DBVR
designator U?
Single Inverter Gate, DBV0005A, LARGE T&R; Generic Part Number: SN74AUC1GU04; Manufacturer: Texas Instruments; PartNumber: SN74AUC1GU04DBVR; VCC(Min)(V): 0.8; VCC(Max)(V): 2.7; Output Type: CMOS; ICC @ Nom Voltage(Max)(mA): 0.01; Bits(#): 1; F @ Nom Voltage(Max)(Mhz): 250; Rating: Catalog; Technology Family: AUC; Voltage(Nom)(V): 0.8,1.2,1.5,1.8,2.5; Schmitt Trigger: No; Output Drive (IOL/IOH)(Max)(mA): 9/-9; tpd @ Nom Voltage(Max)(ns): 1.9,2.5,1.7,2.3,2; Logic: Inverting; Sub-Family: Inverting Buffer/Driver; DatasheetVersion: SCES371L; PackageReference: DBV0005A; Supplier 1: Mouser; Supplier Part Number 1: 595-SN74AUC1GU04DBVR; Supplier 2: Digi-Key; Supplier Part Number 2: 296-13174-2-ND; Supplier 3: Digi-Key; Supplier Part Number 3: 296-13174-1-ND; Supplier 4: Digi-Key; Supplier Part Number 4: 296-13174-6-ND; Input Type: CMOS; Operating Temperature Range(C): -40 to 85; 3-State Output: No; ComponentLink1Description: Manufacturer URL; ComponentLink1URL: http://www.ti.com/; ComponentLink2Description: Datasheet; ComponentLink2URL: http://www.ti.com/lit/ds/symlink/sn74auc1gu04.pdf
footprint DBV0005A_N (SOT23, 5-Leads, Body 3.05x1.75mm, Pitch 0.95mm, IPC Medium Density)
footprint DBV0005A_M (SOT23, 5-Leads, Body 3.05x1.75mm, Pitch 0.95mm, IPC Low Density)
footprint DBV0005A_L (SOT23, 5-Leads, Body 3.05x1.75mm, Pitch 0.95mm, IPC High Density)
part A pins: 2 A (in) "Input A", 4 Y (out) "Output Y"
part B pins: 1 NC "Ground", 3 GND (power) "Ground Pin", 5 VCC (power) "Power Pin"

## SN74AUC1GU04DCKR
designator U?
Single Inverter Gate, DCK0005A, LARGE T&R; Generic Part Number: SN74AUC1GU04; Manufacturer: Texas Instruments; PartNumber: SN74AUC1GU04DCKR; VCC(Min)(V): 0.8; VCC(Max)(V): 2.7; Output Type: CMOS; ICC @ Nom Voltage(Max)(mA): 0.01; Bits(#): 1; F @ Nom Voltage(Max)(Mhz): 250; Rating: Catalog; Technology Family: AUC; Voltage(Nom)(V): 0.8,1.2,1.5,1.8,2.5; Schmitt Trigger: No; Output Drive (IOL/IOH)(Max)(mA): 9/-9; tpd @ Nom Voltage(Max)(ns): 1.9,2.5,1.7,2.3,2; Logic: Inverting; Sub-Family: Inverting Buffer/Driver; DatasheetVersion: SCES371L; PackageReference: DCK0005A; Supplier 1: Mouser; Supplier Part Number 1: 595-SN74AUC1GU04DCKR; Supplier 2: Digi-Key; Supplier Part Number 2: 296-13175-2-ND; Supplier 3: Digi-Key; Supplier Part Number 3: 296-13175-1-ND; Supplier 4: Digi-Key; Supplier Part Number 4: 296-13175-6-ND; Input Type: CMOS; Operating Temperature Range(C): -40 to 85; 3-State Output: No; ComponentLink1Description: Manufacturer URL; ComponentLink1URL: http://www.ti.com/; ComponentLink2Description: Datasheet; ComponentLink2URL: http://www.ti.com/lit/ds/symlink/sn74auc1gu04.pdf
footprint DCK0005A_N (SOT23, 5-Leads, Body 2.15x1.4mm, Pitch 0.65mm, IPC Medium Density)
footprint DCK0005A_M (SOT23, 5-Leads, Body 2.15x1.4mm, Pitch 0.65mm, IPC Low Density)
footprint DCK0005A_L (SOT23, 5-Leads, Body 2.15x1.4mm, Pitch 0.65mm, IPC High Density)
part A pins: 2 A (in) "Input A", 4 Y (out) "Output Y"
part B pins: 1 NC "Ground", 3 GND (power) "Ground Pin", 5 VCC (power) "Power Pin"

## SN74AUC1GU04YZPR
designator U?
Single Inverter Gate, YZP0005ADAD, LARGE T&R; Generic Part Number: SN74AUC1GU04; Manufacturer: Texas Instruments; PartNumber: SN74AUC1GU04YZPR; VCC(Min)(V): 0.8; VCC(Max)(V): 2.7; Output Type: CMOS; ICC @ Nom Voltage(Max)(mA): 0.01; Bits(#): 1; F @ Nom Voltage(Max)(Mhz): 250; Rating: Catalog; Technology Family: AUC; Voltage(Nom)(V): 0.8,1.2,1.5,1.8,2.5; Schmitt Trigger: No; Output Drive (IOL/IOH)(Max)(mA): 9/-9; tpd @ Nom Voltage(Max)(ns): 1.9,2.5,1.7,2.3,2; Logic: Inverting; Sub-Family: Inverting Buffer/Driver; DatasheetVersion: SCES371L; PackageReference: YZP0005ADAD; Supplier 1: Mouser; Supplier Part Number 1: 595-SN74AUC1GU04YZPR; Supplier 2: Digi-Key; Supplier Part Number 2: 296-24107-2-ND; Supplier 3: Digi-Key; Supplier Part Number 3: 296-24107-1-ND; Supplier 4: Digi-Key; Supplier Part Number 4: 296-24107-6-ND; Input Type: CMOS; Operating Temperature Range(C): -40 to 85; 3-State Output: No; ComponentLink1Description: Manufacturer URL; ComponentLink1URL: http://www.ti.com/; ComponentLink2Description: Datasheet; ComponentLink2URL: http://www.ti.com/lit/ds/symlink/sn74auc1gu04.pdf
footprint YZP0005ADAD (BGA, 5-Balls, Body 1.39x0.89mm, Pitch 0.5mm)
part A pins: B1 A (in) "Input", C2 Y (out) "Output"
part B pins: A1 DNU "Do not use", A2 VCC (power) "Power terminal", C1 GND (power) "Ground"

## SN74AUC2G00DCTR
designator U?
DUAL 2-INPUT POSITIVE-NAND GATE, DCT0008A, LARGE T&R; Generic Part Number: SN74AUC2G00; Manufacturer: Texas Instruments; PartNumber: SN74AUC2G00DCTR; VCC(Min)(V): 0.8; VCC(Max)(V): 2.7; Output Type: CMOS; ICC @ Nom Voltage(Max)(mA): 0.01; Bits(#): 2; F @ Nom Voltage(Max)(Mhz): 250; Rating: Catalog; Technology Family: AUC; Voltage(Nom)(V): 0.8,1.2,1.5,1.8,2.5; Schmitt Trigger: No; Output Drive (IOL/IOH)(Max)(mA): 9/-9; tpd @ Nom Voltage(Max)(ns): 8,2.5,1.6,1.2,1; Logic: True; Gate Type: NAND; DatasheetVersion: SCES440C; PackageReference: DCT0008A; Supplier 1: Mouser; Supplier Part Number 1: 595-SN74AUC2G00DCTR; Supplier 2: Digi-Key; Supplier Part Number 2: 296-18565-2-ND; Supplier 3: Digi-Key; Supplier Part Number 3: 296-18565-1-ND; Supplier 4: Digi-Key; Supplier Part Number 4: 296-18565-6-ND; Input Type: CMOS; Operating Temperature Range(C): -40 to 85; Sub-Family: NAND Gate; 3-State Output: No; ComponentLink1Description: Manufacturer URL; ComponentLink1URL: http://www.ti.com/; ComponentLink2Description: Datasheet; ComponentLink2URL: http://www.ti.com/lit/ds/symlink/sn74auc2g00.pdf
footprint DCT0008A_N (SOP, 8-Leads, Body 2.9x3.2mm, Pitch 0.65mm, IPC Medium Density)
footprint DCT0008A_M (SOP, 8-Leads, Body 2.9x3.2mm, Pitch 0.65mm, IPC Low Density)
footprint DCT0008A_L (SOP, 8-Leads, Body 2.9x3.2mm, Pitch 0.65mm, IPC High Density)
part A pins: 1 1A (in) "A input for gate 1", 2 1B (in) "B input for gate 1", 7 1Y (out) "Output for gate 1"
part B pins: 3 2Y (out) "Output for gate 2", 5 2A (in) "A input for gate 2", 6 2B (in) "B input for gate 2"
part C pins: 4 GND (power) "Ground", 8 VCC (power) "Power input."

## SN74AUC2G00DCUR
designator U?
DUAL 2-INPUT POSITIVE-NAND GATE, DCU0008A, LARGE T&R; Generic Part Number: SN74AUC2G00; Manufacturer: Texas Instruments; PartNumber: SN74AUC2G00DCUR; VCC(Min)(V): 0.8; VCC(Max)(V): 2.7; Output Type: CMOS; ICC @ Nom Voltage(Max)(mA): 0.01; Bits(#): 2; F @ Nom Voltage(Max)(Mhz): 250; Rating: Catalog; Technology Family: AUC; Voltage(Nom)(V): 0.8,1.2,1.5,1.8,2.5; Schmitt Trigger: No; Output Drive (IOL/IOH)(Max)(mA): 9/-9; tpd @ Nom Voltage(Max)(ns): 8,2.5,1.6,1.2,1; Logic: True; Gate Type: NAND; DatasheetVersion: SCES440C; PackageReference: DCU0008A; Supplier 1: Mouser; Supplier Part Number 1: 595-SN74AUC2G00DCUR; Supplier 2: Digi-Key; Supplier Part Number 2: 296-18566-2-ND; Supplier 3: Digi-Key; Supplier Part Number 3: 296-18566-1-ND; Supplier 4: Digi-Key; Supplier Part Number 4: 296-18566-6-ND; Input Type: CMOS; Operating Temperature Range(C): -40 to 85; Sub-Family: NAND Gate; 3-State Output: No; ComponentLink1Description: Manufacturer URL; ComponentLink1URL: http://www.ti.com/; ComponentLink2Description: Datasheet; ComponentLink2URL: http://www.ti.com/lit/ds/symlink/sn74auc2g00.pdf
footprint DCU0008A_N (SOP, 8-Leads, Body 2.4x2.1mm, Pitch 0.5mm, IPC Medium Density)
footprint DCU0008A_M (SOP, 8-Leads, Body 2.4x2.1mm, Pitch 0.5mm, IPC Low Density)
footprint DCU0008A_L (SOP, 8-Leads, Body 2.4x2.1mm, Pitch 0.5mm, IPC High Density)
part A pins: 1 1A (in) "A input for gate 1", 2 1B (in) "B input for gate 1", 7 1Y (out) "Output for gate 1"
part B pins: 3 2Y (out) "Output for gate 2", 5 2A (in) "A input for gate 2", 6 2B (in) "B input for gate 2"
part C pins: 4 GND (power) "Ground", 8 VCC (power) "Power input."

## SN74AUC2G00YZPR
designator U?
DUAL 2-INPUT POSITIVE-NAND GATE, YZP0008ADAD, LARGE T&R; Generic Part Number: SN74AUC2G00; Manufacturer: Texas Instruments; PartNumber: SN74AUC2G00YZPR; VCC(Min)(V): 0.8; VCC(Max)(V): 2.7; Output Type: CMOS; ICC @ Nom Voltage(Max)(mA): 0.01; Bits(#): 2; F @ Nom Voltage(Max)(Mhz): 250; Rating: Catalog; Technology Family: AUC; Voltage(Nom)(V): 0.8,1.2,1.5,1.8,2.5; Schmitt Trigger: No; Output Drive (IOL/IOH)(Max)(mA): 9/-9; tpd @ Nom Voltage(Max)(ns): 8,2.5,1.6,1.2,1; Logic: True; Gate Type: NAND; DatasheetVersion: SCES440C; PackageReference: YZP0008ADAD; Supplier 1: Mouser; Supplier Part Number 1: 595-SN74AUC2G00YZPR; Supplier 2: Digi-Key; Supplier Part Number 2: 296-18568-2-ND; Supplier 3: Digi-Key; Supplier Part Number 3: 296-18568-1-ND; Supplier 4: Digi-Key; Supplier Part Number 4: 296-18568-6-ND; Input Type: CMOS; Operating Temperature Range(C): -40 to 85; Sub-Family: NAND Gate; 3-State Output: No; ComponentLink1Description: Manufacturer URL; ComponentLink1URL: http://www.ti.com/; ComponentLink2Description: Datasheet; ComponentLink2URL: http://www.ti.com/lit/ds/symlink/sn74auc2g00.pdf
footprint YZP0008ADAD (BGA, 8-Balls, Body 1.89x0.89mm, Pitch 0.5mm)
part A pins: A1 1A (in) "A input for gate 1", B1 1B (in) "B input for gate 1", B2 1Y (out) "Output for gate 1"
part B pins: C1 2Y (out) "Output for gate 2", C2 2B (in) "B input for gate 2", D2 2A (in) "A input for gate 2"
part C pins: A2 VCC (power) "Power input.", D1 GND (power) "Ground"

## SN74AUC2G02DCTR
designator U?
DUAL 2-INPUT POSITIVE-NOR GATE, DCT0008A, LARGE T&R; Generic Part Number: SN74AUC2G02; Manufacturer: Texas Instruments; PartNumber: SN74AUC2G02DCTR; VCC(Min)(V): 0.8; VCC(Max)(V): 2.7; Output Type: CMOS; ICC @ Nom Voltage(Max)(mA): 0.01; Bits(#): 2; F @ Nom Voltage(Max)(Mhz): 250; Rating: Catalog; Technology Family: AUC; Voltage(Nom)(V): 0.8,1.2,1.5,1.8,2.5; Schmitt Trigger: No; Output Drive (IOL/IOH)(Max)(mA): 9/-9; tpd @ Nom Voltage(Max)(ns): 8,3.5,2.2,1.8,1.3; Logic: True; Gate Type: NOR; DatasheetVersion: SCES441C; PackageReference: DCT0008A; Supplier 1: Mouser; Supplier Part Number 1: 595-SN74AUC2G02DCTR; Supplier 2: Digi-Key; Supplier Part Number 2: 296-18569-2-ND; Supplier 3: Digi-Key; Supplier Part Number 3: 296-18569-1-ND; Supplier 4: Digi-Key; Supplier Part Number 4: 296-18569-6-ND; Input Type: CMOS; Operating Temperature Range(C): -40 to 85; Sub-Family: NOR Gate; 3-State Output: No; ComponentLink1Description: Manufacturer URL; ComponentLink1URL: http://www.ti.com/; ComponentLink2Description: Datasheet; ComponentLink2URL: http://www.ti.com/lit/ds/symlink/sn74auc2g02.pdf
footprint DCT0008A_N (SOP, 8-Leads, Body 2.9x3.2mm, Pitch 0.65mm, IPC Medium Density)
footprint DCT0008A_M (SOP, 8-Leads, Body 2.9x3.2mm, Pitch 0.65mm, IPC Low Density)
footprint DCT0008A_L (SOP, 8-Leads, Body 2.9x3.2mm, Pitch 0.65mm, IPC High Density)
part A pins: 1 1A (in), 2 1B (in), 7 1Y (out)
part B pins: 3 2Y (out), 5 2A (in), 6 2B (in)
part C pins: 4 GND (power), 8 VCC (power)

## SN74AUC2G02DCUR
designator U?
DUAL 2-INPUT POSITIVE-NOR GATE, DCU0008A, LARGE T&R; Generic Part Number: SN74AUC2G02; Manufacturer: Texas Instruments; PartNumber: SN74AUC2G02DCUR; VCC(Min)(V): 0.8; VCC(Max)(V): 2.7; Output Type: CMOS; ICC @ Nom Voltage(Max)(mA): 0.01; Bits(#): 2; F @ Nom Voltage(Max)(Mhz): 250; Rating: Catalog; Technology Family: AUC; Voltage(Nom)(V): 0.8,1.2,1.5,1.8,2.5; Schmitt Trigger: No; Output Drive (IOL/IOH)(Max)(mA): 9/-9; tpd @ Nom Voltage(Max)(ns): 8,3.5,2.2,1.8,1.3; Logic: True; Gate Type: NOR; DatasheetVersion: SCES441C; PackageReference: DCU0008A; Supplier 1: Mouser; Supplier Part Number 1: 595-SN74AUC2G02DCUR; Supplier 2: Digi-Key; Supplier Part Number 2: 296-18570-2-ND; Supplier 3: Digi-Key; Supplier Part Number 3: 296-18570-1-ND; Supplier 4: Digi-Key; Supplier Part Number 4: 296-18570-6-ND; Input Type: CMOS; Operating Temperature Range(C): -40 to 85; Sub-Family: NOR Gate; 3-State Output: No; ComponentLink1Description: Manufacturer URL; ComponentLink1URL: http://www.ti.com/; ComponentLink2Description: Datasheet; ComponentLink2URL: http://www.ti.com/lit/ds/symlink/sn74auc2g02.pdf
footprint DCU0008A_N (SOP, 8-Leads, Body 2.4x2.1mm, Pitch 0.5mm, IPC Medium Density)
footprint DCU0008A_M (SOP, 8-Leads, Body 2.4x2.1mm, Pitch 0.5mm, IPC Low Density)
footprint DCU0008A_L (SOP, 8-Leads, Body 2.4x2.1mm, Pitch 0.5mm, IPC High Density)
part A pins: 1 1A (in), 2 1B (in), 7 1Y (out)
part B pins: 3 2Y (out), 5 2A (in), 6 2B (in)
part C pins: 4 GND (power), 8 VCC (power)

## SN74AUC2G02YZPR
designator U?
DUAL 2-INPUT POSITIVE-NOR GATE, YZP0008ADAD, LARGE T&R; Generic Part Number: SN74AUC2G02; Manufacturer: Texas Instruments; PartNumber: SN74AUC2G02YZPR; VCC(Min)(V): 0.8; VCC(Max)(V): 2.7; Output Type: CMOS; ICC @ Nom Voltage(Max)(mA): 0.01; Bits(#): 2; F @ Nom Voltage(Max)(Mhz): 250; Rating: Catalog; Technology Family: AUC; Voltage(Nom)(V): 0.8,1.2,1.5,1.8,2.5; Schmitt Trigger: No; Output Drive (IOL/IOH)(Max)(mA): 9/-9; tpd @ Nom Voltage(Max)(ns): 8,3.5,2.2,1.8,1.3; Logic: True; Gate Type: NOR; DatasheetVersion: SCES441C; PackageReference: YZP0008ADAD; Supplier 1: Mouser; Supplier Part Number 1: 595-SN74AUC2G02YZPR; Supplier 2: Digi-Key; Supplier Part Number 2: 296-18572-2-ND; Supplier 3: Digi-Key; Supplier Part Number 3: 296-18572-1-ND; Input Type: CMOS; Operating Temperature Range(C): -40 to 85; Sub-Family: NOR Gate; 3-State Output: No; ComponentLink1Description: Manufacturer URL; ComponentLink1URL: http://www.ti.com/; ComponentLink2Description: Datasheet; ComponentLink2URL: http://www.ti.com/lit/ds/symlink/sn74auc2g02.pdf
footprint YZP0008ADAD (BGA, 8-Balls, Body 1.89x0.89mm, Pitch 0.5mm)
part A pins: A1 1A (in), B1 1B (in), B2 1Y (out)
part B pins: C1 2Y (out), C2 2B (in), D2 2A (in)
part C pins: A2 VCC (power), D1 GND (power)

## SN74AUC2G04DBVR
designator U?
Dual Inverter Gate, DBV0006A, LARGE T&R; Generic Part Number: SN74AUC2G04; Manufacturer: Texas Instruments; PartNumber: SN74AUC2G04DBVR; VCC(Min)(V): 0.8; VCC(Max)(V): 2.7; Output Type: CMOS; ICC @ Nom Voltage(Max)(mA): 0.01; Bits(#): 2; F @ Nom Voltage(Max)(Mhz): 250; Rating: Catalog; Technology Family: AUC; Voltage(Nom)(V): 0.8,1.2,1.5,1.8,2.5; Schmitt Trigger: No; Output Drive (IOL/IOH)(Max)(mA): 9/-9; tpd @ Nom Voltage(Max)(ns): 5.4,3.1,2,1.7,1.2; Logic: Inverting; Sub-Family: Inverting Buffer/Driver; DatasheetVersion: SCES437A; PackageReference: DBV0006A; Supplier 1: Mouser; Supplier Part Number 1: 595-SN74AUC2G04DBVR; Supplier 2: Digi-Key; Supplier Part Number 2: 296-18573-2-ND; Supplier 3: Digi-Key; Supplier Part Number 3: 296-18573-1-ND; Supplier 4: Digi-Key; Supplier Part Number 4: 296-18573-6-ND; Input Type: CMOS; Operating Temperature Range(C): -40 to 85; 3-State Output: No; ComponentLink1Description: Manufacturer URL; ComponentLink1URL: http://www.ti.com/; ComponentLink2Description: Datasheet; ComponentLink2URL: http://www.ti.com/lit/ds/symlink/sn74auc2g04.pdf
footprint DBV0006A_N (SOT23, 6-Leads, Body 3.05x1.75mm, Pitch 0.95mm, IPC Medium Density)
footprint DBV0006A_M (SOT23, 6-Leads, Body 3.05x1.75mm, Pitch 0.95mm, IPC Low Density)
footprint DBV0006A_L (SOT23, 6-Leads, Body 3.05x1.75mm, Pitch 0.95mm, IPC High Density)
part A pins: 1 1A (in), 6 1Y (out)
part B pins: 3 2A (in), 4 2Y (out)
part C pins: 2 GND (power), 5 VCC (power)

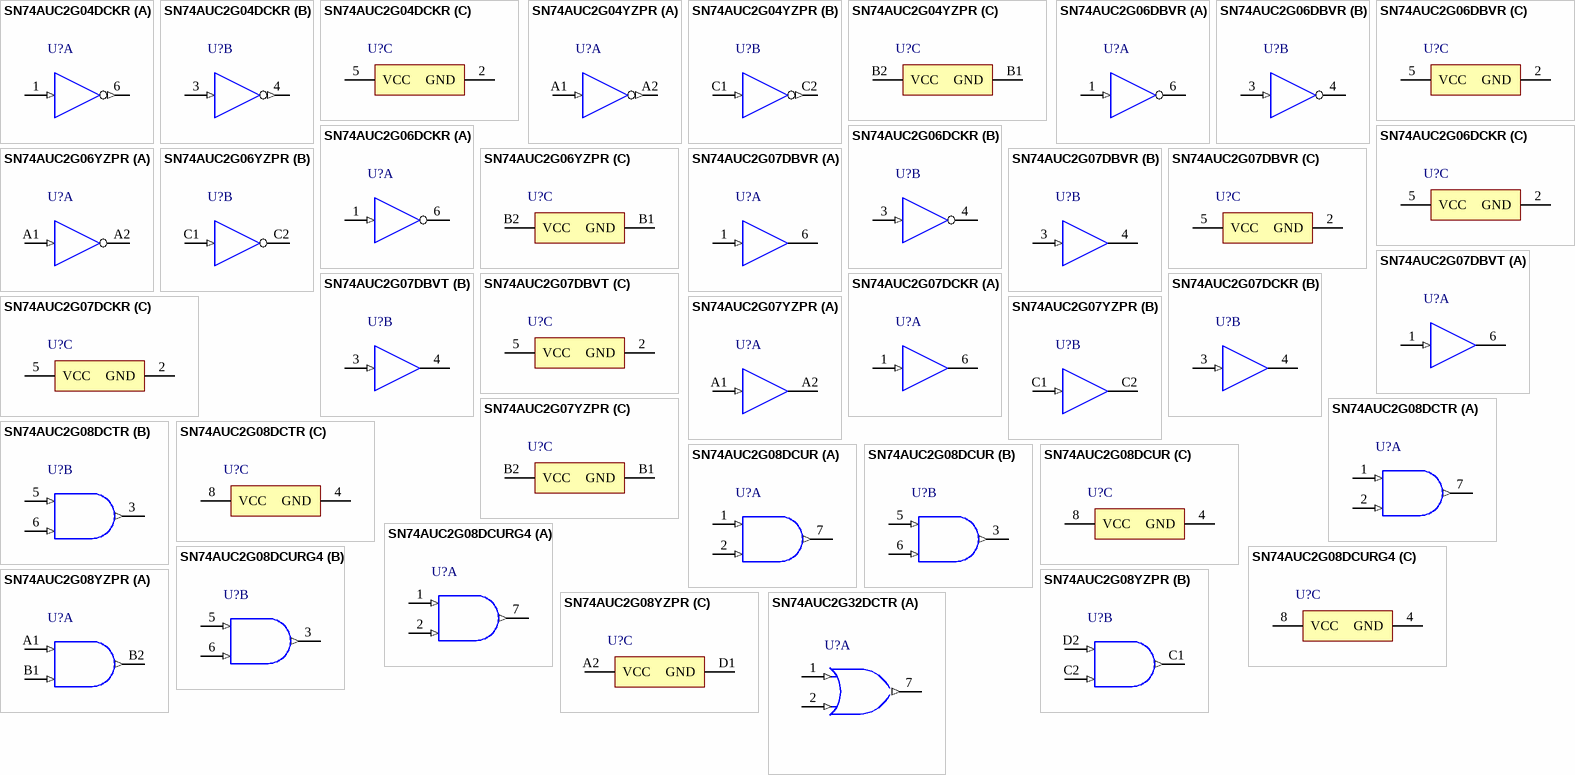
[diagram p11: symbols SN74AUC2G04DCKR to SN74AUC2G32DCTR]

## SN74AUC2G04DCKR
designator U?
Dual Inverter Gate, DCK0006A, LARGE T&R; Generic Part Number: SN74AUC2G04; Manufacturer: Texas Instruments; PartNumber: SN74AUC2G04DCKR; VCC(Min)(V): 0.8; VCC(Max)(V): 2.7; Output Type: CMOS; ICC @ Nom Voltage(Max)(mA): 0.01; Bits(#): 2; F @ Nom Voltage(Max)(Mhz): 250; Rating: Catalog; Technology Family: AUC; Voltage(Nom)(V): 0.8,1.2,1.5,1.8,2.5; Schmitt Trigger: No; Output Drive (IOL/IOH)(Max)(mA): 9/-9; tpd @ Nom Voltage(Max)(ns): 5.4,3.1,2,1.7,1.2; Logic: Inverting; Sub-Family: Inverting Buffer/Driver; DatasheetVersion: SCES437A; PackageReference: DCK0006A; Supplier 1: Mouser; Supplier Part Number 1: 595-SN74AUC2G04DCKR; Supplier 2: Digi-Key; Supplier Part Number 2: 296-16688-2-ND; Supplier 3: Digi-Key; Supplier Part Number 3: 296-16688-1-ND; Supplier 4: Digi-Key; Supplier Part Number 4: 296-16688-6-ND; Input Type: CMOS; Operating Temperature Range(C): -40 to 85; 3-State Output: No; ComponentLink1Description: Manufacturer URL; ComponentLink1URL: http://www.ti.com/; ComponentLink2Description: Datasheet; ComponentLink2URL: http://www.ti.com/lit/ds/symlink/sn74auc2g04.pdf
footprint DCK0006A_N (SOT23, 6-Leads, Body 2.15x1.4mm, Pitch 0.65mm, IPC Medium Density)
footprint DCK0006A_M (SOT23, 6-Leads, Body 2.15x1.4mm, Pitch 0.65mm, IPC Low Density)
footprint DCK0006A_L (SOT23, 6-Leads, Body 2.15x1.4mm, Pitch 0.65mm, IPC High Density)
part A pins: 1 1A (in), 6 1Y (out)
part B pins: 3 2A (in), 4 2Y (out)
part C pins: 2 GND (power), 5 VCC (power)

## SN74AUC2G04YZPR
designator U?
Dual Inverter Gate, YZP0006ADAD, LARGE T&R; Generic Part Number: SN74AUC2G04; Manufacturer: Texas Instruments; PartNumber: SN74AUC2G04YZPR; VCC(Min)(V): 0.8; VCC(Max)(V): 2.7; Output Type: CMOS; ICC @ Nom Voltage(Max)(mA): 0.01; Bits(#): 2; F @ Nom Voltage(Max)(Mhz): 250; Rating: Catalog; Technology Family: AUC; Voltage(Nom)(V): 0.8,1.2,1.5,1.8,2.5; Schmitt Trigger: No; Output Drive (IOL/IOH)(Max)(mA): 9/-9; tpd @ Nom Voltage(Max)(ns): 5.4,3.1,2,1.7,1.2; Logic: Inverting; Sub-Family: Inverting Buffer/Driver; DatasheetVersion: SCES437A; PackageReference: YZP0006ADAD; Supplier 1: Mouser; Supplier Part Number 1: 595-SN74AUC2G04YZPR; Supplier 2: Digi-Key; Supplier Part Number 2: 296-23240-2-ND; Supplier 3: Digi-Key; Supplier Part Number 3: 296-23240-1-ND; Supplier 4: Digi-Key; Supplier Part Number 4: 296-23240-6-ND; Input Type: CMOS; Operating Temperature Range(C): -40 to 85; 3-State Output: No; ComponentLink1Description: Manufacturer URL; ComponentLink1URL: http://www.ti.com/; ComponentLink2Description: Datasheet; ComponentLink2URL: http://www.ti.com/lit/ds/symlink/sn74auc2g04.pdf
footprint YZP0006ADAD (BGA, 6-Balls, Body 1.39x0.89mm, Pitch 0.5mm)
part A pins: A1 1A (in), A2 1Y (out)
part B pins: C1 2A (in), C2 2Y (out)
part C pins: B1 GND (power), B2 VCC (power)

## SN74AUC2G06DBVR
designator U?
Dual Inverter Buffer/Driver with Open Drain Outputs, DBV0006A, LARGE T&R; Generic Part Number: SN74AUC2G06; Manufacturer: Texas Instruments; PartNumber: SN74AUC2G06DBVR; VCC(Min)(V): 0.8; VCC(Max)(V): 2.7; Output Type: CMOS; ICC @ Nom Voltage(Max)(mA): 0.01; Bits(#): 2; F @ Nom Voltage(Max)(Mhz): 250; Rating: Catalog; Technology Family: AUC; Voltage(Nom)(V): 0.8,1.2,1.5,1.8,2.5; Schmitt Trigger: No; Output Drive (IOL/IOH)(Max)(mA): 9/-9; tpd @ Nom Voltage(Max)(ns): 4.1,3.3,2.8,3,2.3; Logic: Inverting; Sub-Family: Inverting Buffer/Driver; DatasheetVersion: SCES442C; PackageReference: DBV0006A; Supplier 1: Mouser; Supplier Part Number 1: 595-SN74AUC2G06DBVR; Supplier 2: Digi-Key; Supplier Part Number 2: 296-18575-2-ND; Supplier 3: Digi-Key; Supplier Part Number 3: 296-18575-1-ND; Supplier 4: Digi-Key; Supplier Part Number 4: 296-18575-6-ND; Input Type: CMOS; Operating Temperature Range(C): -40 to 85; 3-State Output: No; ComponentLink1Description: Manufacturer URL; ComponentLink1URL: http://www.ti.com/; ComponentLink2Description: Datasheet; ComponentLink2URL: http://www.ti.com/lit/ds/symlink/sn74auc2g06.pdf
footprint DBV0006A_N (SOT23, 6-Leads, Body 3.05x1.75mm, Pitch 0.95mm, IPC Medium Density)
footprint DBV0006A_M (SOT23, 6-Leads, Body 3.05x1.75mm, Pitch 0.95mm, IPC Low Density)
footprint DBV0006A_L (SOT23, 6-Leads, Body 3.05x1.75mm, Pitch 0.95mm, IPC High Density)
part A pins: 1 1A (in), 6 1Y (oc)
part B pins: 3 2A (in), 4 2Y (oc)
part C pins: 2 GND (power), 5 VCC (power)

## SN74AUC2G06DCKR
designator U?
Dual Inverter Buffer/Driver with Open Drain Outputs, DCK0006A, LARGE T&R; Generic Part Number: SN74AUC2G06; Manufacturer: Texas Instruments; PartNumber: SN74AUC2G06DCKR; VCC(Min)(V): 0.8; VCC(Max)(V): 2.7; Output Type: CMOS; ICC @ Nom Voltage(Max)(mA): 0.01; Bits(#): 2; F @ Nom Voltage(Max)(Mhz): 250; Rating: Catalog; Technology Family: AUC; Voltage(Nom)(V): 0.8,1.2,1.5,1.8,2.5; Schmitt Trigger: No; Output Drive (IOL/IOH)(Max)(mA): 9/-9; tpd @ Nom Voltage(Max)(ns): 4.1,3.3,2.8,3,2.3; Logic: Inverting; Sub-Family: Inverting Buffer/Driver; DatasheetVersion: SCES442C; PackageReference: DCK0006A; Supplier 1: Mouser; Supplier Part Number 1: 595-SN74AUC2G06DCKR; Supplier 2: Digi-Key; Supplier Part Number 2: 296-17052-2-ND; Supplier 3: Digi-Key; Supplier Part Number 3: 296-17052-1-ND; Supplier 4: Digi-Key; Supplier Part Number 4: 296-17052-6-ND; Input Type: CMOS; Operating Temperature Range(C): -40 to 85; 3-State Output: No; ComponentLink1Description: Manufacturer URL; ComponentLink1URL: http://www.ti.com/; ComponentLink2Description: Datasheet; ComponentLink2URL: http://www.ti.com/lit/ds/symlink/sn74auc2g06.pdf
footprint DCK0006A_N (SOT23, 6-Leads, Body 2.15x1.4mm, Pitch 0.65mm, IPC Medium Density)
footprint DCK0006A_M (SOT23, 6-Leads, Body 2.15x1.4mm, Pitch 0.65mm, IPC Low Density)
footprint DCK0006A_L (SOT23, 6-Leads, Body 2.15x1.4mm, Pitch 0.65mm, IPC High Density)
part A pins: 1 1A (in), 6 1Y (oc)
part B pins: 3 2A (in), 4 2Y (oc)
part C pins: 2 GND (power), 5 VCC (power)

## SN74AUC2G06YZPR
designator U?
Dual Inverter Buffer/Driver with Open Drain Outputs, YZP0006ADAD, LARGE T&R; Generic Part Number: SN74AUC2G06; Manufacturer: Texas Instruments; PartNumber: SN74AUC2G06YZPR; VCC(Min)(V): 0.8; VCC(Max)(V): 2.7; Output Type: CMOS; ICC @ Nom Voltage(Max)(mA): 0.01; Bits(#): 2; F @ Nom Voltage(Max)(Mhz): 250; Rating: Catalog; Technology Family: AUC; Voltage(Nom)(V): 0.8,1.2,1.5,1.8,2.5; Schmitt Trigger: No; Output Drive (IOL/IOH)(Max)(mA): 9/-9; tpd @ Nom Voltage(Max)(ns): 4.1,3.3,2.8,3,2.3; Logic: Inverting; Sub-Family: Inverting Buffer/Driver; DatasheetVersion: SCES442C; PackageReference: YZP0006ADAD; Supplier 1: Mouser; Supplier Part Number 1: 595-SN74AUC2G06YZPR; Supplier 2: Digi-Key; Supplier Part Number 2: 296-18577-2-ND; Supplier 3: Digi-Key; Supplier Part Number 3: 296-18577-1-ND; Input Type: CMOS; Operating Temperature Range(C): -40 to 85; 3-State Output: No; ComponentLink1Description: Manufacturer URL; ComponentLink1URL: http://www.ti.com/; ComponentLink2Description: Datasheet; ComponentLink2URL: http://www.ti.com/lit/ds/symlink/sn74auc2g06.pdf
footprint YZP0006ADAD (BGA, 6-Balls, Body 1.39x0.89mm, Pitch 0.5mm)
part A pins: A1 1A (in), A2 1Y (oc)
part B pins: C1 2A (in), C2 2Y (oc)
part C pins: B1 GND (power), B2 VCC (power)

## SN74AUC2G07DBVR
designator U?
Dual Buffer/Driver with Open-Drain Outputs, DBV0006A, LARGE T&R; Generic Part Number: SN74AUC2G07; Manufacturer: Texas Instruments; PartNumber: SN74AUC2G07DBVR; VCC(Min)(V): 1.8; VCC(Max)(V): 2.7; Output Type: CMOS; ICC @ Nom Voltage(Max)(mA): 0.01; Bits(#): 2; F @ Nom Voltage(Max)(Mhz): 250; Rating: Catalog; Technology Family: AUC; Voltage(Nom)(V): 0.8,1.2,1.5,1.8,2.5; Schmitt Trigger: No; Output Drive (IOL/IOH)(Max)(mA): 9/-9; tpd @ Nom Voltage(Max)(ns): 4.3,3,2.2,2.5,1.6; Logic: True; Sub-Family: Non-Inverting Buffer/Driver; DatasheetVersion: SCES443D; PackageReference: DBV0006A; Supplier 1: Mouser; Supplier Part Number 1: 595-SN74AUC2G07DBVR; Supplier 2: Digi-Key; Supplier Part Number 2: 296-15736-2-ND; Supplier 3: Digi-Key; Supplier Part Number 3: 296-15736-1-ND; Supplier 4: Digi-Key; Supplier Part Number 4: 296-15736-6-ND; Input Type: CMOS; Operating Temperature Range(C): -40 to 85; 3-State Output: No; ComponentLink1Description: Manufacturer URL; ComponentLink1URL: http://www.ti.com/; ComponentLink2Description: Datasheet; ComponentLink2URL: http://www.ti.com/lit/ds/symlink/sn74auc2g07.pdf
footprint DBV0006A_N (SOT23, 6-Leads, Body 3.05x1.75mm, Pitch 0.95mm, IPC Medium Density)
footprint DBV0006A_M (SOT23, 6-Leads, Body 3.05x1.75mm, Pitch 0.95mm, IPC Low Density)
footprint DBV0006A_L (SOT23, 6-Leads, Body 3.05x1.75mm, Pitch 0.95mm, IPC High Density)
part A pins: 1 1A (in) "Input 1", 6 1Y (oc) "Open-drain output 1"
part B pins: 3 2A (in) "Input 2", 4 2Y (oc) "Open-drain output 2"
part C pins: 2 GND (power) "Ground", 5 VCC (power) "Power pin"

## SN74AUC2G07DBVT
designator U?
Dual Buffer/Driver with Open-Drain Outputs, DBV0006A, SMALL T&R; Generic Part Number: SN74AUC2G07; Manufacturer: Texas Instruments; PartNumber: SN74AUC2G07DBVT; VCC(Min)(V): 1.8; VCC(Max)(V): 2.7; Output Type: CMOS; ICC @ Nom Voltage(Max)(mA): 0.01; Bits(#): 2; F @ Nom Voltage(Max)(Mhz): 250; Rating: Catalog; Technology Family: AUC; Voltage(Nom)(V): 0.8,1.2,1.5,1.8,2.5; Schmitt Trigger: No; Output Drive (IOL/IOH)(Max)(mA): 9/-9; tpd @ Nom Voltage(Max)(ns): 4.3,3,2.2,2.5,1.6; Logic: True; Sub-Family: Non-Inverting Buffer/Driver; DatasheetVersion: SCES443D; PackageReference: DBV0006A; Supplier 1: Mouser; Supplier Part Number 1: 595-SN74AUC2G07DBVT; Supplier 2: Digi-Key; Supplier Part Number 2: SN74AUC2G07DBVT-ND; Input Type: CMOS; Operating Temperature Range(C): -40 to 85; 3-State Output: No; ComponentLink1Description: Manufacturer URL; ComponentLink1URL: http://www.ti.com/; ComponentLink2Description: Datasheet; ComponentLink2URL: http://www.ti.com/lit/ds/symlink/sn74auc2g07.pdf
footprint DBV0006A_N (SOT23, 6-Leads, Body 3.05x1.75mm, Pitch 0.95mm, IPC Medium Density)
footprint DBV0006A_M (SOT23, 6-Leads, Body 3.05x1.75mm, Pitch 0.95mm, IPC Low Density)
footprint DBV0006A_L (SOT23, 6-Leads, Body 3.05x1.75mm, Pitch 0.95mm, IPC High Density)
part A pins: 1 1A (in) "Input 1", 6 1Y (oc) "Open-drain output 1"
part B pins: 3 2A (in) "Input 2", 4 2Y (oc) "Open-drain output 2"
part C pins: 2 GND (power) "Ground", 5 VCC (power) "Power pin"